# Altium footprint library TO-263-4.PcbLib: 1 footprints
Each footprint in its own frame and in the unit in brackets; x right, y up, seen from the top. Pads: shape width x height; smd on the part's side, far side on the other; paste and mask are expansions set on the pad; w line width, h text height; cw(c..) or ccw(c..) is an arc to the next point about the centre after c.
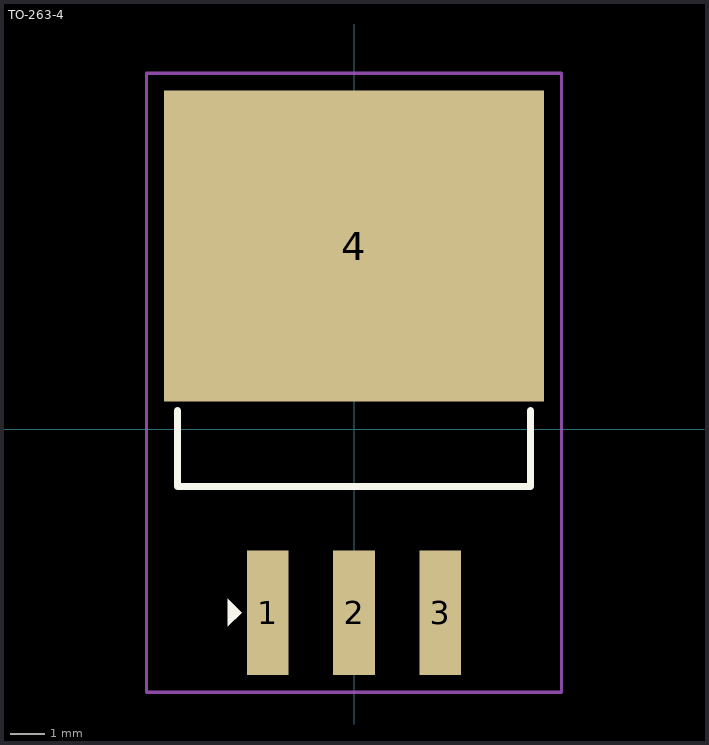
[diagram p0: the footprint, top view; thin cyan lines are the x and y axes]

## TO-263-4 [mm]
pads (4):
  rect 1.2x3.6 smd: 1(-2.5,-5.3) 2(0,-5.3) 3(2.5,-5.3)
  rect 11x9 smd: 4(0,5.3)
Top Overlay:
  region: -3.65,-5.7 -3.65,-4.9 -3.25,-5.3
  lines w0.2: -5.1,0.55 -5.1,-1.65 5.1,-1.65 5.1,0.55
Top Courtyard:
  lines w0.1: -6,-7.6 -0.3,-7.6 6,-7.6 6,10.3 -6,10.3 -6,-7.6
3D body "TL760M33QKTTRQ1.STEP": height 4.65, standoff -0.15, extent -5.08,-6.225 5.08,8.125